# Altium schematic symbol library BAT20JFILM.SchLib: 1 symbol
Pins are listed as number, name and electrical type; pins without a type are passive.

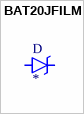
[diagram p0: symbol BAT20JFILM]

## BAT20JFILM
designator D
Diode Schottky 23V 1A Surface Mount SOD-323; MP: BAT20JFILM; MF: STMicroelectronics; Package: SOD-323 STMicroelectronics; SnapEDA_Link: https://www.snapeda.com/parts/BAT20JFILM/STMicroelectronics/view-part/110314/?ref=snap; Value: *; Availability: Unavailable; Price: None
footprint SOD-323
pins: A, C